# Altium footprint library PCB2.PcbLib: 22 footprints (part 2 of 2)
Each footprint in its own frame and in the unit in brackets; x right, y up, seen from the top. Pads: shape width x height; smd on the part's side, far side on the other; paste and mask are expansions set on the pad; w line width, h text height; cw(c..) or ccw(c..) is an arc to the next point about the centre after c.
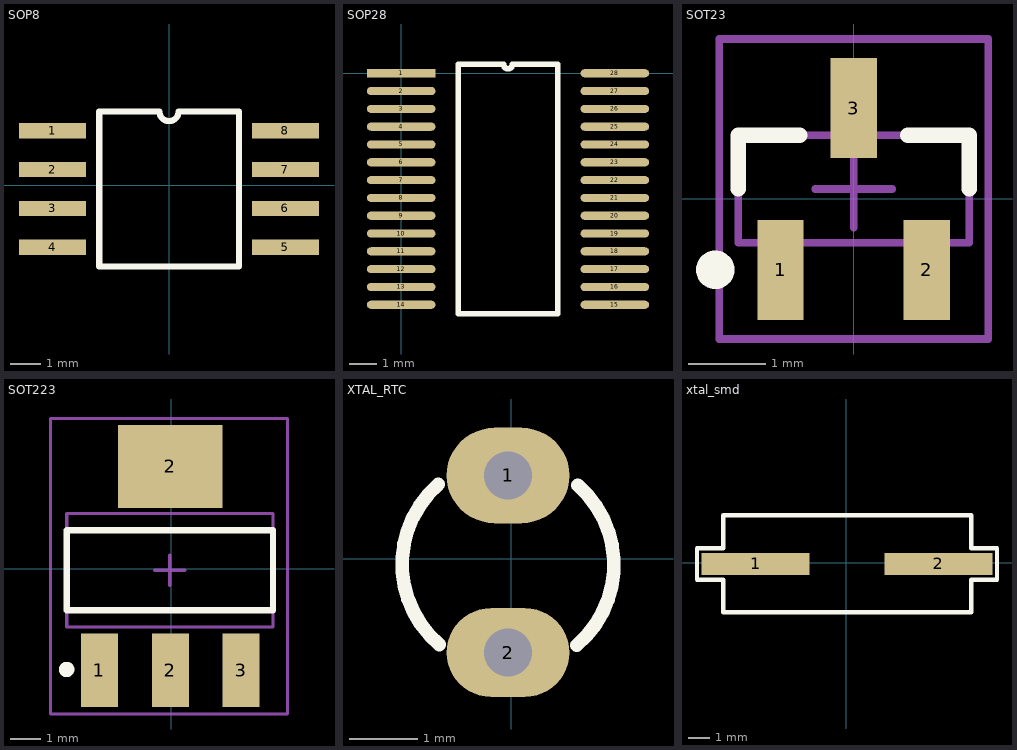
[diagram p1: the footprints below, top view; thin cyan lines are the x and y axes]

## SOP8 [mm]
pads (8):
  rect 2.2x0.5 smd: 1(-3.81,1.778) 2(-3.81,0.508) 3(-3.81,-0.762) 4(-3.81,-2.032) 5(3.806,-2.032) 6(3.806,-0.762) 7(3.806,0.508) 8(3.806,1.778)
Top Overlay:
  lines w0.2: -2.286,-2.667 2.286,-2.667 2.286,2.413 0.315,2.413 cw(c-0.002,2.413) -0.32,2.413 -2.286,2.413 -2.286,-2.667
3D body "soic8.STEP": height 1.7, standoff -0.05, extent -3.251,-2.578 2.743,2.324

## SOP28 [mm]
pads (28):
  rect 2.5x0.3 smd: 1(0,0)
  oval 2.5x0.3 smd: 2(0,-0.65) 3(0,-1.3) 4(0,-1.95) 5(0,-2.6) 6(0,-3.25) 7(0,-3.9) 8(0,-4.55) 9(0,-5.2) 10(0,-5.85) 11(0,-6.5) 12(0,-7.15) 13(0,-7.8) 14(0,-8.45) 15(7.8,-8.45) 16(7.8,-7.8) 17(7.8,-7.15) 18(7.8,-6.5) 19(7.8,-5.85) 20(7.8,-5.2) 21(7.8,-4.55) 22(7.8,-3.9) 23(7.8,-3.25) 24(7.8,-2.6) 25(7.8,-1.95) 26(7.8,-1.3) 27(7.8,-0.65) 28(7.8,0)
Top Overlay:
  lines w0.2: 2.085,-8.775 5.715,-8.775 5.715,0.325 4.062,0.325 cw(c3.9,0.325) 3.738,0.325 2.085,0.325 2.085,-8.775
3D body "FT232RL--3DModel-STEP-56544.STEP": height 2, standoff 0, extent 0.291,-9.291 8.091,0.909

## SOT23 [mm]
pads (3):
  rect 0.6x1.3 smd: 1(-0.95,-0.923) 2(0.95,-0.923) 3(0,1.177)
Top Overlay:
  circle w0.25: c-1.8,-0.923 r0.125
  lines w0.2: -1.5,0.127 -1.5,0.827 -0.7,0.827 ; 0.7,0.827 1.5,0.827 1.5,0.127
Mechanical 13:
  lines w0.1: -1.5,-0.573 1.5,-0.573 1.5,0.827 -1.5,0.827 -1.5,-0.573
Mechanical 15:
  lines w0.1: -0.5,0.127 0.5,0.127 ; 0,-0.373 0,0.627 ; -1.75,-1.823 1.75,-1.823 1.75,2.077 -1.75,2.077 -1.75,-1.823
3D body: height 1.1, standoff 0, extent -1.5,-0.573 1.5,0.827

## SOT223 [mm]
pads (4):
  rect 1.2x2.4 smd: 1(-2.337,-3.302) 2(-0.034,-3.302) 3(2.265,-3.302)
  rect 3.4x2.7 smd: 2(-0.034,3.327)
Top Overlay:
  circle w0.25: c-3.402,-3.277 r0.125
  lines w0.2: -3.401,-1.351 -3.401,1.249 3.299,1.249 3.299,-1.351 -3.401,-1.351
Mechanical 13:
  lines w0.1: -3.401,-1.901 -3.401,1.799 3.299,1.799 3.299,-1.901 -3.401,-1.901
Mechanical 15:
  lines w0.1: -0.551,-0.051 0.449,-0.051 ; -0.051,-0.551 -0.051,0.449 ; -3.926,-4.724 3.774,-4.724 3.774,4.876 -3.926,4.876 -3.926,-4.724
3D body "AMS1117-3.3--3DModel-STEP-56544.STEP": height 1.77, standoff -0.04, extent -3.378,-3.626 3.124,3.372

## XTAL_RTC [mm]
pads (2):
  oval 1.8x1.4 hole 0.7: 1(-0.051,1.22)
  oval 1.8x1.3 hole 0.7: 2(-0.051,-1.372)
Top Overlay:
  lines w0.2: -1.073,1.089 ccw(c-0.051,-0.076) -1.057,-1.256 ; 0.955,-1.265 ccw(c-0.051,-0.086) 0.971,1.079
3D body "crystal rtc.STEP": height 10, standoff -9, extent -1.524,-1.854 1.676,1.346

## xtal_smd [mm]
pads (2):
  rect 5x1 smd: 1(-4.216,-0.051) 2(4.267,-0.051)
Top Overlay:
  lines w0.2: -6.934,-0.787 -6.934,0.686 -5.715,0.686 -5.715,2.21 5.785,2.21 5.785,0.686 6.985,0.686 6.985,-0.787 5.785,-0.787 5.785,-2.29 -5.715,-2.29 -5.715,-0.787 -6.934,-0.787
3D body "crystal smd.STEP": height 4.3, standoff 0, extent -6.6,-2.4 6.6,2.4